# Altium schematic symbol library SI2308CDS-T1-GE3.SchLib: 1 symbol
Pins are listed as number, name and electrical type; pins without a type are passive.

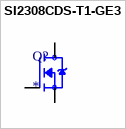
[diagram p0: symbol SI2308CDS-T1-GE3]

## SI2308CDS-T1-GE3
designator Q?
Mosfet n-Ch 60v 2.6a Sot23-3; MF: {'manufacturer': u'Vishay Siliconix'}; MP: SI2308CDS-T1-GE3; Price: None; Value: *; Availability: Unavailable; Package: None
footprint SOT95P237X112-3N
pins: 1 G, 2 S, 3 D